# EAGLE library part IMS-G176 (library Transputers)
G176 high performance colour look-up table INMOS Colour look-up table, IBM PS/2 and VGA compatible Source: The Graphics Databook 1990. INMOS/SGS-Thomson Arto Kyyhkynen, artoky@dlc.fi
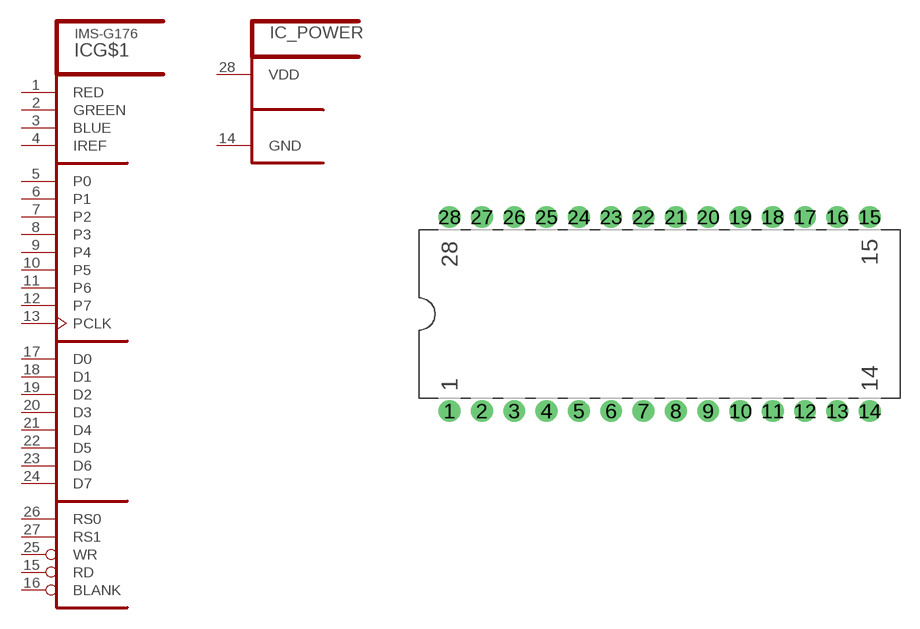
[diagram p25: symbol with the pads of DIL28-6; footprint DIL28-6]

Designator prefix IC; gates G$1=G171 _POWER=G1XX_SUP

## IMS-G176LS50P, IMS-G176S40P, IMS-G176S50P, IMS-G176S66P, IMS-G176S80P  [DIL28-6]
1  G$1:RED  out
2  G$1:GREEN  out
3  G$1:BLUE  out
4  G$1:IREF  in
5  G$1:P0  in
6  G$1:P1  in
7  G$1:P2  in
8  G$1:P3  in
9  G$1:P4  in
10  G$1:P5  in
11  G$1:P6  in
12  G$1:P7  in
13  G$1:PCLK  in
14  _POWER:GND  pwr
15  G$1:RD  in
16  G$1:BLANK  in
17  G$1:D0
18  G$1:D1
19  G$1:D2
20  G$1:D3
21  G$1:D4
22  G$1:D5
23  G$1:D6
24  G$1:D7
25  G$1:WR  in
26  G$1:RS0  in
27  G$1:RS1  in
28  _POWER:VDD  pwr

## Footprint DIL28-6 (pad centres in mm)
Plastic Dual In Line INMOS
drill 1.143 pad 1.676 round: 1 -16.51,-7.62; 2 -13.97,-7.62; 3 -11.43,-7.62; 4 -8.89,-7.62; 5 -6.35,-7.62; 6 -3.81,-7.62; 7 -1.27,-7.62; 8 1.27,-7.62; 9 3.81,-7.62; 10 6.35,-7.62; 11 8.89,-7.62; 12 11.43,-7.62; 13 13.97,-7.62; 14 16.51,-7.62; 15 16.51,7.62; 16 13.97,7.62; 17 11.43,7.62; 18 8.89,7.62; 19 6.35,7.62; 20 3.81,7.62; 21 1.27,7.62; 22 -1.27,7.62; 23 -3.81,7.62; 24 -6.35,7.62; 25 -8.89,7.62; 26 -11.43,7.62; 27 -13.97,7.62; 28 -16.51,7.62